# EAGLE library part LNK302 (library Cool_Electricity)
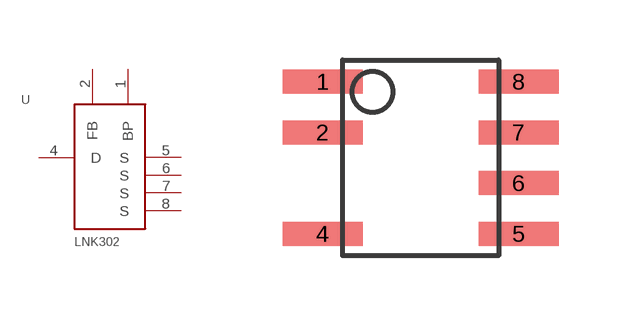
[diagram p8: symbol with the pads of SO-8C_POWERINT; footprint SO-8C_POWERINT]

Designator prefix U

## LNK302  [SO-8C_POWERINT]
1  BP
2  FB
4  D
5  S
6  S
7  S
8  S

## Footprint SO-8C_POWERINT (pad centres in mm)
smd 2 x 0.6: 1 -2.45,1.905; 2 -2.45,0.635; 4 -2.45,-1.905; 5 2.45,-1.905; 6 2.45,-0.635; 7 2.45,0.635; 8 2.45,1.905